# Altium schematic symbol library CSMS.SchLib: 16 symbols
Pins are listed as number, name and electrical type; pins without a type are passive.

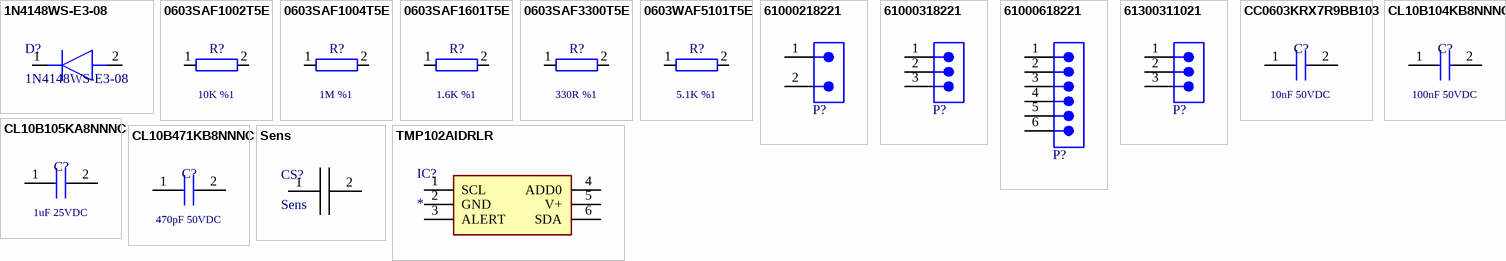
[diagram p0: symbols 1N4148WS-E3-08 to TMP102AIDRLR]

## 1N4148WS-E3-08
designator D?
Diode; Manufacturer_Name: Vishay; Datasheet Link: https://datasheet.datasheetarchive.com/originals/distributors/Datasheets-DGA23/1390442.pdf; Height: 1.15mm; Manufacturer_Part_Number: 1N4148WS-E3-08; Mouser Part Number: 78-1N4148WS-E3-08; Mouser Price/Stock: https://www.mouser.co.uk/ProductDetail/Vishay-Semiconductors/1N4148WS-E3-08?qs=bTzheeSci6R8fv1OBRENhQ%3D%3D; Arrow Part Number: 1N4148WS-E3-08; Arrow Price/Stock: https://www.arrow.com/en/products/1n4148ws-e3-08/vishay?region=europe; Supplier 1: Mouser; Supplier Part Number 1: 78-1N4148WS-E3-08
footprint SOD2513X110N
pins: 1 K, 2 A

## 0603SAF1002T5E
designator R?  value 10K %1  (hidden comment: 0603SAF1002T5E)
10K Ohms 1% 1/10W-S 100PPM RES 0603; Ozdisan Price/Stock: https://ozdisan.com/Product/Detail/522144/CL10A106MO8NQNC; Supplier 1: Farnell; Supplier Part Number 1: 1632392
footprint 0603 RES
pins: 1, 2

## 0603SAF1004T5E
designator R?  value 1M %1  (hidden comment: 0603SAF1004T5E)
1M Ohms 1% 1/10W-S 100PPM RES 0603; Ozdisan Price/Stock: https://ozdisan.com/Product/Detail/522144/CL10A106MO8NQNC; Supplier 1: Newark; Supplier Part Number 1: 79M5904
footprint 0603 RES
pins: 1, 2

## 0603SAF1601T5E
designator R?  value 1.6K %1  (hidden comment: 0603SAF1601T5E)
1.6K Ohms 1% 1/10W-S 100PPM RES 0603; Ozdisan Price/Stock: https://ozdisan.com/Product/Detail/522144/CL10A106MO8NQNC; Supplier 1: Avnet; Supplier Part Number 1: 39P9958
footprint 0603 RES
pins: 1, 2

## 0603SAF3300T5E
designator R?  value 330R %1  (hidden comment: 0603SAF3300T5E)
330R Ohms 1% 1/10W-S 100PPM RES 0603; Ozdisan Price/Stock: https://ozdisan.com/Product/Detail/522144/CL10A106MO8NQNC; Supplier 1: Mouser; Supplier Part Number 1: 603-RC0603FR-07330RL
footprint 0603 RES
pins: 1, 2

## 0603WAF5101T5E
designator R?  value 5.1K %1  (hidden comment: 0603WAF5101T5E)
5.1 K Ohms 1% 1/10W-S 100PPM RES 0603; Ozdisan Price/Stock: https://ozdisan.com/Product/Detail/522144/CL10A106MO8NQNC; Supplier 1: Avnet; Supplier Part Number 1: 39P9958; JLCPCB Part #: C23186
footprint 0603 RES
pins: 1, 2

## 61000218221
designator P?  (value not drawn)
WR-PHD Pin Header, THT, Angled, pitch 2.54mm, 1 Row, 3P; Manufacturer Part Number: 61300311021; Manufacturer: Wurth Elektronik; Contact Resistance: 20mΩ; Rated Current: 3A; Working Voltage: 250V; Withstanding Voltage: 500V; ComponentLink1Description: Website Link; ComponentLink1URL: https://www.we-online.com/redexpert/article/61300311021?ad; ComponentLink2Description: Datasheet Link; ComponentLink2URL: https://www.we-online.com/redexpert/spec/61300311021?ad; Category: Board-to-Board Connectors; Match Code: WR-PHD; Mount: Through Hole; Operating Temperature Max: 105°C; Operating Temperature Min: -40°C; Packaging: Bag; Gender: Pin Header; Number of Pins: 3; Number of Rows: 1; Orientation: Angled; Pitch: 2.54mm; Supplier 1: Digi-Key; Supplier Part Number 1: 732-5336-ND
footprint 61000218221 (Footprint not found)
pins: 1, 2

## 61000318221
designator P?  (value not drawn)
WR-PHD Pin Header, THT, Angled, pitch 2.54mm, 1 Row, 3P; Manufacturer Part Number: 61300311021; Manufacturer: Wurth Elektronik; Contact Resistance: 20mΩ; Rated Current: 3A; Working Voltage: 250V; Withstanding Voltage: 500V; ComponentLink1Description: Website Link; ComponentLink1URL: https://www.we-online.com/redexpert/article/61300311021?ad; ComponentLink2Description: Datasheet Link; ComponentLink2URL: https://www.we-online.com/redexpert/spec/61300311021?ad; Category: Board-to-Board Connectors; Match Code: WR-PHD; Mount: Through Hole; Operating Temperature Max: 105°C; Operating Temperature Min: -40°C; Packaging: Bag; Gender: Pin Header; Number of Pins: 3; Number of Rows: 1; Orientation: Angled; Pitch: 2.54mm; Supplier 1: Digi-Key; Supplier Part Number 1: 732-5336-ND
footprint 61000318221 (Pin Header, pitch 2.54 mm, SMD, Vertical, single row, 6p)
pins: 1, 2, 3

## 61000618221
designator P?  (value not drawn)
WR-PHD Pin Header, SMT, Vertical, pitch 2.54mm, 1 Row, 6P; Manufacturer: Wurth Elektronik; Contact Resistance: 20mOhm; Rated Current: 3A; Working Voltage: 250V; Withstanding Voltage: 500V; Manufacturer Part Number: 61000618221; Category: Board-to-Board Connectors; Match Code: WR-PHD; ComponentLink1Description: Website Link; ComponentLink1URL: https://www.we-online.com/redexpert/article/61000618221?ad; ComponentLink2Description: Datasheet Link; ComponentLink2URL: https://www.we-online.com/redexpert/spec/61000618221?ad; Mount: Surface Mount; Operating Temperature Max: 105°C; Operating Temperature Min: -40°C; Packaging: Tube; Gender: Pin Header; Number of Pins: 6; Number of Rows: 1; Orientation: Vertical; Pitch: 2.54mm
footprint 61000618221
pins: 1, 2, 3, 4, 5, 6

## 61300311021
designator P?  (value not drawn)
WR-PHD Pin Header, THT, Angled, pitch 2.54mm, 1 Row, 3P; Manufacturer: Wurth Elektronik; Contact Resistance: 20mΩ; Rated Current: 3A; Working Voltage: 250V; Withstanding Voltage: 500V; ComponentLink1Description: Website Link; ComponentLink1URL: https://www.we-online.com/redexpert/article/61300311021?ad; ComponentLink2Description: Datasheet Link; ComponentLink2URL: https://www.we-online.com/redexpert/spec/61300311021?ad; Manufacturer Part Number: 61300311021; Category: Board-to-Board Connectors; Match Code: WR-PHD; Mount: Through Hole; Operating Temperature Max: 105°C; Operating Temperature Min: -40°C; Packaging: Bag; Gender: Pin Header; Number of Pins: 3; Number of Rows: 1; Orientation: Angled; Pitch: 2.54mm; Supplier 1: Digi-Key; Supplier Part Number 1: 732-5336-ND
footprint 61300311021
pins: 1, 2, 3

## CC0603KRX7R9BB103
designator C?  value 10nF 50VDC  (hidden comment: CC0603KRX7R9BB103)
10nF, 50 V, ± 10%, X7R, 0603, Multilayer Ceramic Capacitor,; Ozdisan Price/Stock: https://ozdisan.com/Product/Detail/522144/CL10A106MO8NQNC; Supplier 1: Mouser; Supplier Part Number 1: 603-CC603KRX7R9BB103
footprint 0603 CAP
pins: 1, 2

## CL10B104KB8NNNC
designator C?  value 100nF 50VDC  (hidden comment: CL10B104KB8NNNC)
100nF 50VDC ±10% X7R MLCC 0603; Ozdisan Price/Stock: https://ozdisan.com/Product/Detail/522144/CL10A106MO8NQNC; Supplier 1: Digi-Key; Supplier Part Number 1: 1276-1000-1-ND
footprint 0603 CAP
pins: 1, 2

## CL10B105KA8NNNC
designator C?  value 1uF 25VDC  (hidden comment: CL10B105KA8NNNC)
1uF 25VDC ±10% X7R MLCC 0603; Ozdisan Price/Stock: https://ozdisan.com/Product/Detail/522144/CL10A106MO8NQNC; Supplier 1: Ozdisan; Supplier Part Number 1: CL10B105KA8NNNC; Supplier 2: Digi-Key; Supplier Part Number 2: 1276-1184-1-ND
footprint 0603 CAP
pins: 1, 2

## CL10B471KB8NNNC
designator C?  value 470pF 50VDC  (hidden comment: CL10B471KB8NNNC)
470pF 50VDC ±10% X7R MLCC 0603; Ozdisan Price/Stock: https://ozdisan.com/Product/Detail/522144/CL10A106MO8NQNC; Supplier 1: Mouser; Supplier Part Number 1: 187-CL10B471KB8NNNC
footprint 0603 CAP
pins: 1, 2

## Sens
designator CS?
Pcb Sens
footprint Sens (Footprint not found)
pins: 1, 2

## TMP102AIDRLR
designator IC?
Integrated Circuit; Manufacturer_Name: Texas Instruments; Manufacturer_Part_Number: TMP102AIDRLR; Datasheet Link: http://www.ti.com/lit/gpn/tmp102; Height: 0.6mm; Mouser Part Number: 595-TMP102AIDRLR; Mouser Price/Stock: https://www.mouser.co.uk/ProductDetail/Texas-Instruments/TMP102AIDRLR?qs=SUwrw6jWmlKK8eMrKfK4LA%3D%3D; Arrow Part Number: TMP102AIDRLR; Arrow Price/Stock: https://www.arrow.com/en/products/tmp102aidrlr/texas-instruments?region=nac
footprint SOTFL50P160X60-6N (Footprint not found)
pins: 1 SCL, 2 GND, 3 ALERT, 4 ADD0, 5 V+, 6 SDA